# Altium schematic symbol library 0603 560R.Schlib: 1 symbol
Pins are listed as number, name and electrical type; pins without a type are passive.

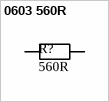
[diagram p0: symbol 0603 560R]

## 0603 560R
designator R?, comment value 560R  (hidden comment: Resistor)
560Ω ±1% 0.1W ±100ppm/℃ 0603 Chip Resistor - Surface Mount RoHS; LCSC Part #: C23204
footprint RES 0603_1608 (Chip Resistor, 2-Leads, Body 1.60x0.80mm, IPC Medium Density)
pins: 1, 2